# EAGLE library part STM32F401CCU6 (library STM32F401CCU6)
32-Bit MCU Cortex-M4 256KB 1.8V UFQFPN48 STMicroelectronics STM32F401CCU6, 32bit ARM Cortex M4 MCU, 84MHz, 256 kB Flash, 48-Pin UFQFPN Source: Datasheet <http://www.st.com/web/en/resource/technical/document/datasheet/DM00086815.pdf>
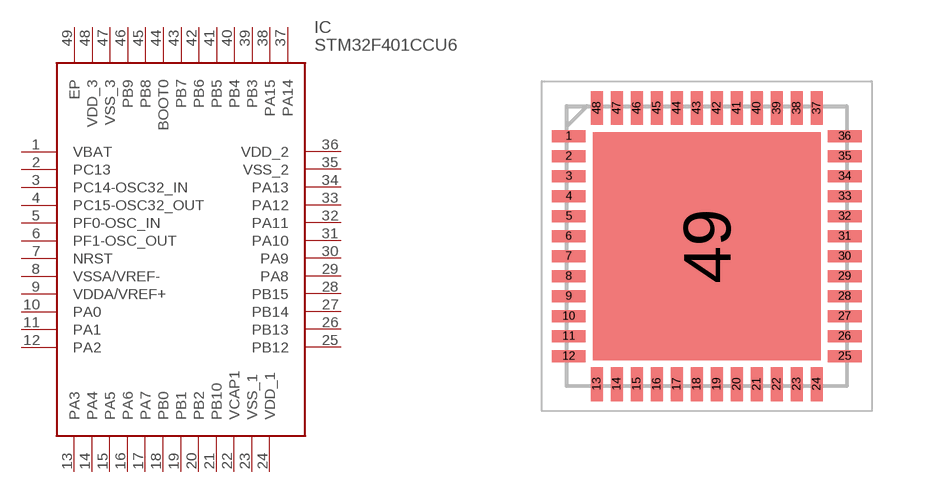
[diagram p0: symbol with the pads of QFN50P700X700X60-49N; footprint QFN50P700X700X60-49N]

Designator prefix IC

## STM32F401CCU6 (Arrow_Part_Number: STM32F401CCU6; Arrow_Price-Stock: https://www.arrow.com/en/products/stm32f401ccu6/stmicroelectronics?region=nac; Description: 32-Bit MCU Cortex-M4 256KB 1.8V UFQFPN48 STMicroelectronics STM32F401CCU6, 32bit ARM Cortex M4 MCU, 84MHz, 256 kB Flash, 48-Pin UFQFPN; Height: 0.6mm; Manufacturer_Name: STMicroelectronics; Manufacturer_Part_Number: STM32F401CCU6; Mouser_Part_Number: 511-STM32F401CCU6; Mouser_Price-Stock: https://www.mouser.co.uk/ProductDetail/STMicroelectronics/STM32F401CCU6?qs=DqCdCwOw4%2F5VrOZQxO795A%3D%3D)  [QFN50P700X700X60-49N]
1  VBAT
2  PC13
3  PC14-OSC32_IN  in
4  PC15-OSC32_OUT  out
5  PF0-OSC_IN  in
6  PF1-OSC_OUT  out
7  NRST  in
8  VSSA/VREF-  pwr
9  VDDA/VREF+  pwr
10  PA0
11  PA1
12  PA2
13  PA3
14  PA4
15  PA5
16  PA6
17  PA7
18  PB0
19  PB1
20  PB2
21  PB10
22  VCAP1
23  VSS_1  pwr
24  VDD_1  pwr
25  PB12
26  PB13
27  PB14
28  PB15
29  PA8
30  PA9
31  PA10
32  PA11
33  PA12
34  PA13
35  VSS_2  pwr
36  VDD_2  pwr
37  PA14
38  PA15
39  PB3
40  PB4
41  PB5
42  PB6
43  PB7
44  BOOT0
45  PB8
46  PB9
47  VSS_3  pwr
48  VDD_3  pwr
49  EP

## Footprint QFN50P700X700X60-49N (pad centres in mm)
UFQFPN48
smd 0.85 x 0.3: 1 -3.45,2.75; 2 -3.45,2.25; 3 -3.45,1.75; 4 -3.45,1.25; 5 -3.45,0.75; 6 -3.45,0.25; 7 -3.45,-0.25; 8 -3.45,-0.75; 9 -3.45,-1.25; 10 -3.45,-1.75; 11 -3.45,-2.25; 12 -3.45,-2.75; 25 3.45,-2.75; 26 3.45,-2.25; 27 3.45,-1.75; 28 3.45,-1.25; 29 3.45,-0.75; 30 3.45,-0.25; 31 3.45,0.25; 32 3.45,0.75; 33 3.45,1.25; 34 3.45,1.75; 35 3.45,2.25; 36 3.45,2.75
smd 0.3 x 0.85: 13 -2.75,-3.45; 14 -2.25,-3.45; 15 -1.75,-3.45; 16 -1.25,-3.45; 17 -0.75,-3.45; 18 -0.25,-3.45; 19 0.25,-3.45; 20 0.75,-3.45; 21 1.25,-3.45; 22 1.75,-3.45; 23 2.25,-3.45; 24 2.75,-3.45; 37 2.75,3.45; 38 2.25,3.45; 39 1.75,3.45; 40 1.25,3.45; 41 0.75,3.45; 42 0.25,3.45; 43 -0.25,3.45; 44 -0.75,3.45; 45 -1.25,3.45; 46 -1.75,3.45; 47 -2.25,3.45; 48 -2.75,3.45
smd 5.7 x 5.7: 49 0,0